# Altium schematic symbol library cu.SchLib: 1 symbol
Pins are listed as number, name and electrical type; pins without a type are passive.

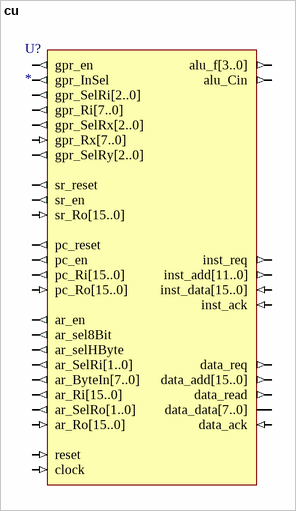
[diagram p0: symbol cu]

## cu
designator U?
pins: alu_Cin (out), alu_f[3..0] (out), ar_ByteIn[7..0] (out), ar_en (out), ar_Ri[15..0] (out), ar_Ro[15..0] (in), ar_sel8Bit (out), ar_selHByte (out), ar_SelRi[1..0] (out), ar_SelRo[1..0] (out), clock (in), data_ack (in), data_add[15..0] (out), data_data[7..0] (io), data_read (out), data_req (out), gpr_en (out), gpr_InSel (out), gpr_Ri[7..0] (out), gpr_Rx[7..0] (in), gpr_SelRi[2..0] (out), gpr_SelRx[2..0] (out), gpr_SelRy[2..0] (out), inst_ack (in), inst_add[11..0] (out), inst_data[15..0] (in), inst_req (out), pc_en (out), pc_reset (out), pc_Ri[15..0] (out), pc_Ro[15..0] (in), reset (in), sr_en (out), sr_reset (out), sr_Ro[15..0] (in)